# Altium footprint library USB.PcbLib: 5 footprints
Each footprint in its own frame and in the unit in brackets; x right, y up, seen from the top. Pads: shape width x height; smd on the part's side, far side on the other; paste and mask are expansions set on the pad; w line width, h text height; cw(c..) or ccw(c..) is an arc to the next point about the centre after c.
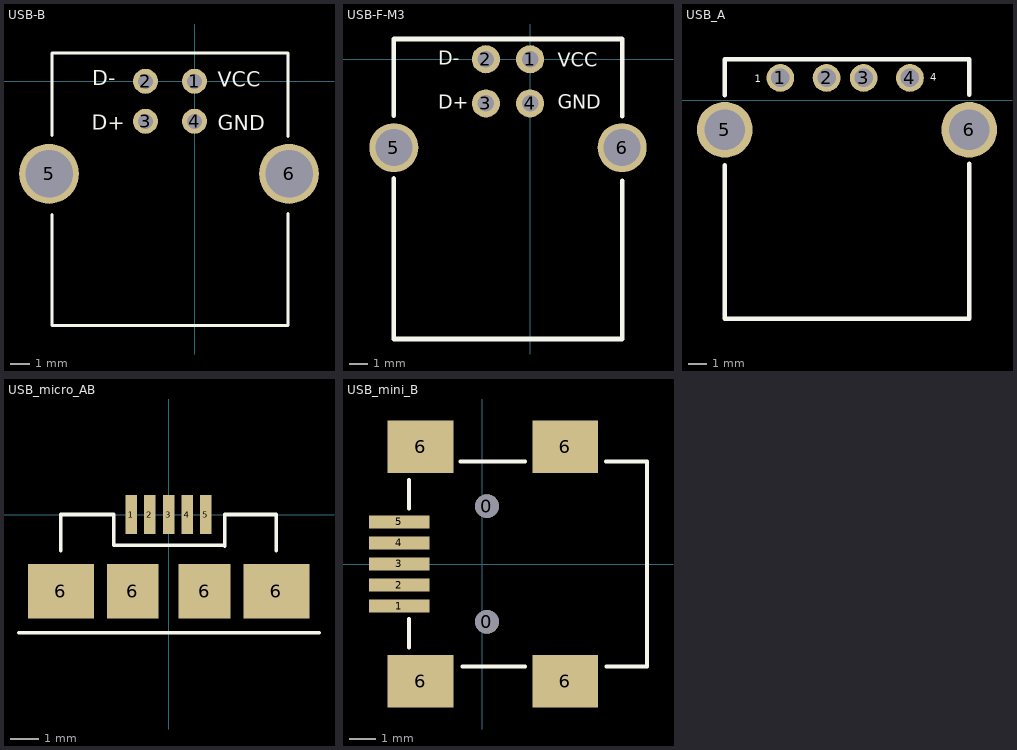
[diagram p0: the footprints below, top view; thin cyan lines are the x and y axes]

## USB-B [mil]
pads (6):
  round 50 hole 30: 1(0,0) 2(-98,0) 3(-98,-80) 4(0,-80)
  round 120 hole 95: 5(-291,-185) 6(189,-185)
Top Overlay:
  lines w6: -285,-266.5 -285,-488 187,-488 187,-264.5 ; -285,-108.5 -285,57 187,57 187,-110.5
  text "VCC" at 46,-11 h30
  text "D-" at -205,-8 h30
  text "D+" at -206,-97 h30
  text "GND" at 46,-98 h30

## USB-F-M3 [mm]
pads (6):
  round 1.524 hole 0.9: 1(0,0) 2(-2.4,0) 3(-2.4,-2.4) 4(0,-2.4)
  round 2.667 hole 2: 5(-7.4,-4.8) 6(5,-4.8)
Top Overlay:
  lines w0.254: -7.4,-6.477 -7.4,-15.2 5,-15.2 ; -7.4,-3.073 -7.4,1.1 5,1.1 5,-3.099 ; 4.953,-15.2 5,-15.153 5,-6.604
  text "D-" at -5,-0.3 h0.76
  text "D+" at -5,-2.7 h0.76
  text "GND" at 1.5,-2.7 h0.76
  text "VCC" at 1.5,-0.4 h0.76

## USB_A [mm]
pads (6):
  round 1.5 hole 1: 1(-24.317,1.213) 2(-21.817,1.213) 3(-19.817,1.213) 4(-17.317,1.213)
  round 3 hole 2.2: 5(-27.317,-1.587) 6(-14.117,-1.587)
Top Overlay:
  lines w0.254: -27.317,-3.505 -27.317,-11.787 -14.117,-11.787 ; -27.317,0.279 -27.317,2.213 -14.117,2.213 ; -14.109,-11.787 -14.109,-3.429 ; -14.109,0.305 -14.109,2.213
  text "4" at -16.21,1.06 h0.4
  text "1" at -25.71,0.97 h0.4

## USB_micro_AB [mm] "micro USB 座(兼容A和B)"
pads (9):
  rect 0.4x1.35 smd: 1(-1.3,0) 2(-0.65,0) 3(0,0) 4(0.65,0) 5(1.3,0)
  rect 2.3x1.9 smd: 6(-3.75,-2.675) 6(3.75,-2.675)
  rect 1.8x1.9 smd: 6(-1.25,-2.675) 6(1.25,-2.675)
Top Overlay:
  lines w0.127: -5.207,-4.115 5.232,-4.115 ; -3.75,-1.253 -3.75,0 -1.905,0 -1.905,-1.067 1.93,-1.067 1.956,-1.092 1.956,0 3.75,0 3.75,-1.253

## USB_mini_B [mm] "Mini USB 座"
pads (11):
  round 0.9 hole 0.9: 0(0.175,2.2) 0(0.175,-2.2)
  rect 2.3x0.5 smd: 1(-3.15,-1.6) 2(-3.15,-0.8) 3(-3.15,0) 4(-3.15,0.8) 5(-3.15,1.6)
  rect 2.5x2 smd: 6(-2.35,-4.45) 6(-2.35,4.45) 6(3.15,-4.45) 6(3.15,4.45)
Top Overlay:
  lines w0.152: -2.794,-3.175 -2.794,-2.083 ; -2.794,2.108 -2.794,3.2 ; -0.838,3.9 1.626,3.9 ; -0.762,-3.9 1.626,-3.9 ; 4.699,3.9 6.25,3.9 6.25,-3.9 4.724,-3.9